# EAGLE library part DF17-20M (library Lysenko_Eagle_Lib)
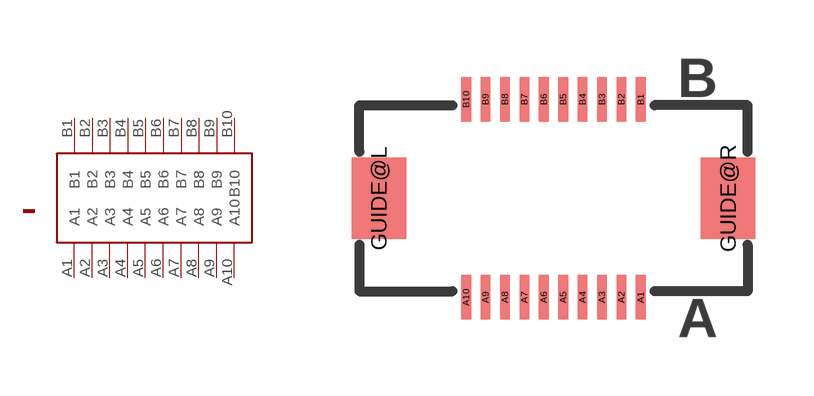
[diagram p14: symbol with the pads of DF17-20M; footprint DF17-20M]

Designator prefix -

## DF17-20M  [DF17-20M]
A1  A1
A2  A2
A3  A3
A4  A4
A5  A5
A6  A6
A7  A7
A8  A8
A9  A9
A10  A10
B1  B1
B2  B2
B3  B3
B4  B4
B5  B5
B6  B6
B7  B7
B8  B8
B9  B9
B10  B10

## Footprint DF17-20M (pad centres in mm)
smd 0.25 x 1.15: A1 4,-2.553; A2 3.5,-2.553; A3 3,-2.553; A4 2.5,-2.553; A5 2,-2.553; A6 1.5,-2.553; A7 1,-2.553; A8 0.5,-2.553; A9 0,-2.553; A10 -0.5,-2.553; B1 4,2.553; B2 3.5,2.553; B3 3,2.553; B4 2.5,2.553; B5 2,2.553; B6 1.5,2.553; B7 1,2.553; B8 0.5,2.553; B9 0,2.553; B10 -0.5,2.553
smd 1.4 x 2.1: GUIDE@L -2.75,0; GUIDE@R 6.25,0